# Altium schematic symbol library ProPrj_HTXStudio_OneHanded_Keyboard.SchLib: 24 symbols
Pins are listed as number, name and electrical type; pins without a type are passive.

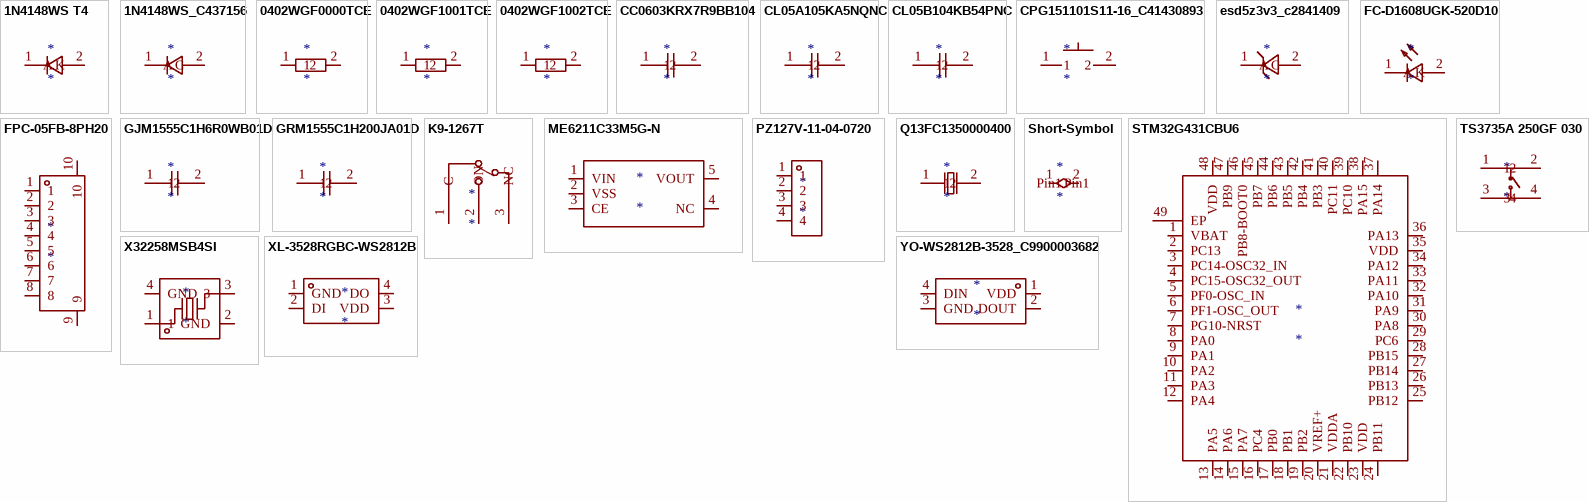
[diagram p0: symbols 1N4148WS T4 to YO-WS2812B-3528_C9900003682]

## 1N4148WS T4
designator *
pins: 1 K, 2 A

## 1N4148WS_C437156
designator *
pins: 1 C, 2 A

## 0402WGF0000TCE
designator *
pins: 1, 2

## 0402WGF1001TCE
designator *
pins: 1, 2

## 0402WGF1002TCE
designator *
pins: 1, 2

## CC0603KRX7R9BB104
designator *
pins: 1, 2

## CL05A105KA5NQNC
designator *
pins: 1, 2

## CL05B104KB54PNC
designator *
pins: 1, 2

## CPG151101S11-16_C41430893
designator *
pins: 1, 2

## esd5z3v3_c2841409
designator *
pins: 1 C, 2 A

## FC-D1608UGK-520D10
designator *
pins: 1 K, 2 A

## FPC-05FB-8PH20
designator *
pins: 1, 2, 3, 4, 5, 6, 7, 8, 9, 10

## GJM1555C1H6R0WB01D
designator *
pins: 1, 2

## GRM1555C1H200JA01D
designator *
pins: 1, 2

## K9-1267T
designator *
pins: 1 C, 2 ON, 3 NC

## ME6211C33M5G-N
designator *
pins: 1 VIN, 2 VSS, 3 CE, 4 NC, 5 VOUT

## PZ127V-11-04-0720
designator *
pins: 1, 2, 3, 4

## Q13FC1350000400
designator *
pins: 1, 2

## Short-Symbol
designator *
pins: 1 Pin1, 2 Pin1

## STM32G431CBU6
designator *
pins: 1 VBAT, 2 PC13, 3 PC14-OSC32_IN, 4 PC15-OSC32_OUT, 5 PF0-OSC_IN, 6 PF1-OSC_OUT, 7 PG10-NRST, 8 PA0, 9 PA1, 10 PA2, 11 PA3, 12 PA4, 13 PA5, 14 PA6, 15 PA7, 16 PC4, 17 PB0, 18 PB1, 19 PB2, 20 VREF+, 21 VDDA, 22 PB10, 23 VDD, 24 PB11, 25 PB12, 26 PB13, 27 PB14, 28 PB15, 29 PC6, 30 PA8, 31 PA9, 32 PA10, 33 PA11, 34 PA12, 35 VDD, 36 PA13, 37 PA14, 38 PA15, 39 PC10, 40 PC11, 41 PB3, 42 PB4, 43 PB5, 44 PB6, 45 PB7, 46 PB8-BOOT0, 47 PB9, 48 VDD, 49 EP

## TS3735A 250GF 030
designator *
pins: 1, 2, 3, 4

## X32258MSB4SI
designator *
pins: 1, 2 GND, 3, 4 GND

## XL-3528RGBC-WS2812B
designator *
pins: 1 GND, 2 DI, 3 VDD, 4 DO

## YO-WS2812B-3528_C9900003682
designator *
pins: 1 VDD, 2 DOUT, 3 GND, 4 DIN